# Altium schematic symbol library Solin.SchLib: 20 symbols
Pins are listed as number, name and electrical type; pins without a type are passive.

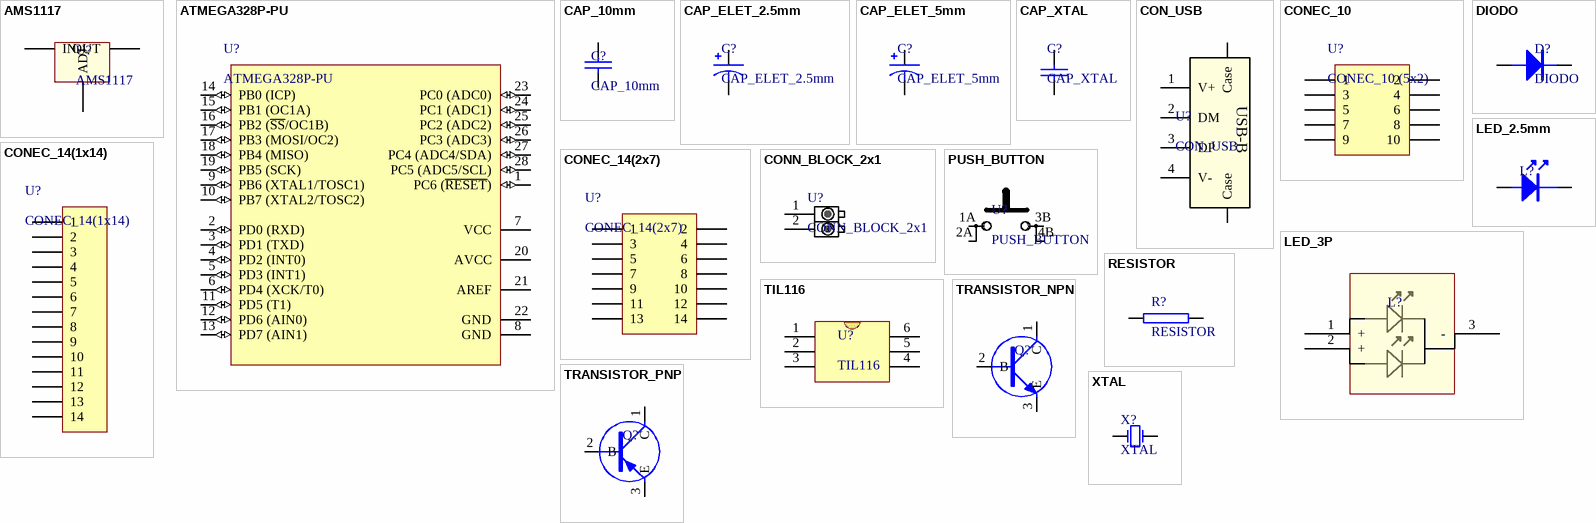
[diagram p0: symbols AMS1117 to XTAL]

## AMS1117
designator U?
footprint AMS1117
pins: 1 ADJ, 2 OUT, 3 IN

## ATMEGA328P-PU
designator U?
footprint ATMEGA328P-PU
pins: 1 PC6 (~{RESET}) (io), 2 PD0 (RXD) (io), 3 PD1 (TXD) (io), 4 PD2 (INT0) (io), 5 PD3 (INT1) (io), 6 PD4 (XCK/T0) (io), 7 VCC (power), 8 GND (power), 9 PB6 (XTAL1/TOSC1) (io), 10 PB7 (XTAL2/TOSC2) (io), 11 PD5 (T1) (io), 12 PD6 (AIN0) (io), 13 PD7 (AIN1) (io), 14 PB0 (ICP) (io), 15 PB1 (OC1A) (io), 16 PB2 (~{SS}/OC1B) (io), 17 PB3 (MOSI/OC2) (io), 18 PB4 (MISO) (io), 19 PB5 (SCK) (io), 20 AVCC (power), 21 AREF, 22 GND (power), 23 PC0 (ADC0) (io), 24 PC1 (ADC1) (io), 25 PC2 (ADC2) (io), 26 PC3 (ADC3) (io), 27 PC4 (ADC4/SDA) (io), 28 PC5 (ADC5/SCL) (io)

## CAP_10mm
designator C?
footprint CAP_10mm
pins: 1, 2

## CAP_ELET_2.5mm
designator C?
footprint CAP_ELE_SMALL
footprint CAP_ELET_2.5mm
pins: 1, 2

## CAP_ELET_5mm
designator C?
footprint CAP_ELE_BIG
footprint CAP_ELET_5mm
pins: 1, 2

## CAP_XTAL
designator C?
footprint CAP_XTAL
pins: 1, 2

## CON_USB
designator U?
footprint CON_USB
pins: 1 V+, 2 DM, 3 DP, 4 V-, 5 Case, 6 Case
text: USB-B

## CONEC_10
designator U?, comment CONEC_10 (5x2)
footprint CONEC_IDC_10_5x2
pins: 1, 2, 3, 4, 5, 6, 7, 8, 9, 10

## CONEC_14(1x14)
designator U?
footprint CONEC_14(1x14)
pins: 1, 2, 3, 4, 5, 6, 7, 8, 9, 10, 11, 12, 13, 14

## CONEC_14(2x7)
designator U?
footprint CONEC_14(2x7)
pins: 1, 2, 3, 4, 5, 6, 7, 8, 9, 10, 11, 12, 13, 14

## CONN_BLOCK_2x1
designator U?
footprint CONN_BLOCK_2X1
pins: 1, 2

## DIODO
designator D?
footprint DIODO
pins: 1 K, 2 A

## LED_2.5mm
designator L?, comment LED  (value not drawn)
footprint LED_2.5mm
pins: A, K

## LED_3P
designator L?  (value not drawn)
LED 3 pins
footprint LED_3P
pins: 1 +, 2 +, 3 -, A, A, K, K

## PUSH_BUTTON
designator U?
footprint PUSH_BUTTON; pin to pad 1A>1 2A>3 3B>2 4B>4
pins: 1A, 2A, 3B, 4B

## RESISTOR
designator R?
footprint RESISTOR
pins: 1, 2

## TIL116
designator U?
Optocopler
footprint DIP_6
pins: 1 Name?, 2 Name?, 3 Name?, 4 Name?, 5 Name?, 6 Name?

## TRANSISTOR_NPN
designator Q?, comment NPN  (value not drawn)
Transistor NPN
footprint TRANSISTOR; pin to pad 1>C 2>B 3>E
pins: 1 C, 2 B, 3 E

## TRANSISTOR_PNP
designator Q?, comment PNP  (value not drawn)
Transistor PNP
footprint TRANSISTOR; pin to pad 1>C 2>B 3>E
pins: 1 C, 2 B, 3 E

## XTAL
designator X?
Crystal
footprint XTAL
pins: 1 OSC1, 2 OSC2